# EAGLE library part 70543-0005 (library EXCISS)
70543-0005 2.54mm Pitch SL Header, Single Row, Vertical, 3.05mm Pocket, Shrouded, 7 Circuits, 0.38µm Gold (Au) Selective Plating, Tin (Sn) PC Tail Plating Links Datasheet <http://www.molex.com/pdm_docs/sd/705430006_sd.pdf> Product website <https://www.molex.com/molex/products/datasheet.jsp?part=active/0705430006_PCB_HEADERS.xml>
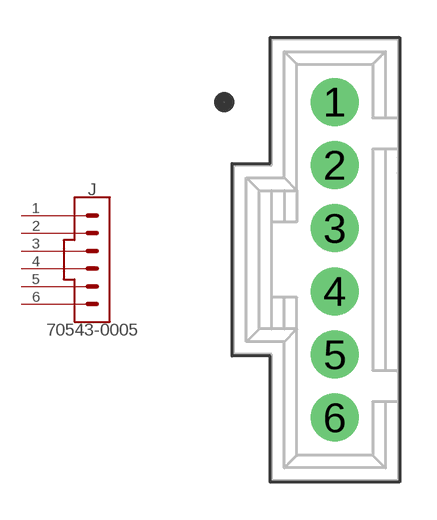
[diagram p27: symbol with the pads of MOLEX_70543-0005; footprint MOLEX_70543-0005]

Designator prefix J

## 70543-0005 (OC_MOUSER: 538-70543-0003)  [MOLEX_70543-0005]
1  1  pas
2  2  pas
3  3  pas
4  4  pas
5  5  pas
6  6  pas

## Footprint MOLEX_70543-0005 (pad centres in mm)
drill 1.1 pad 1.93: 1 0,0; 2 0,-2.54; 3 0,-5.08; 4 0,-7.62; 5 0,-10.16; 6 0,-12.7